# Altium footprint library 2.2TFT.PcbLib: 6 footprints
Each footprint in its own frame and in the unit in brackets; x right, y up, seen from the top. Pads: shape width x height; smd on the part's side, far side on the other; paste and mask are expansions set on the pad; w line width, h text height; cw(c..) or ccw(c..) is an arc to the next point about the centre after c.
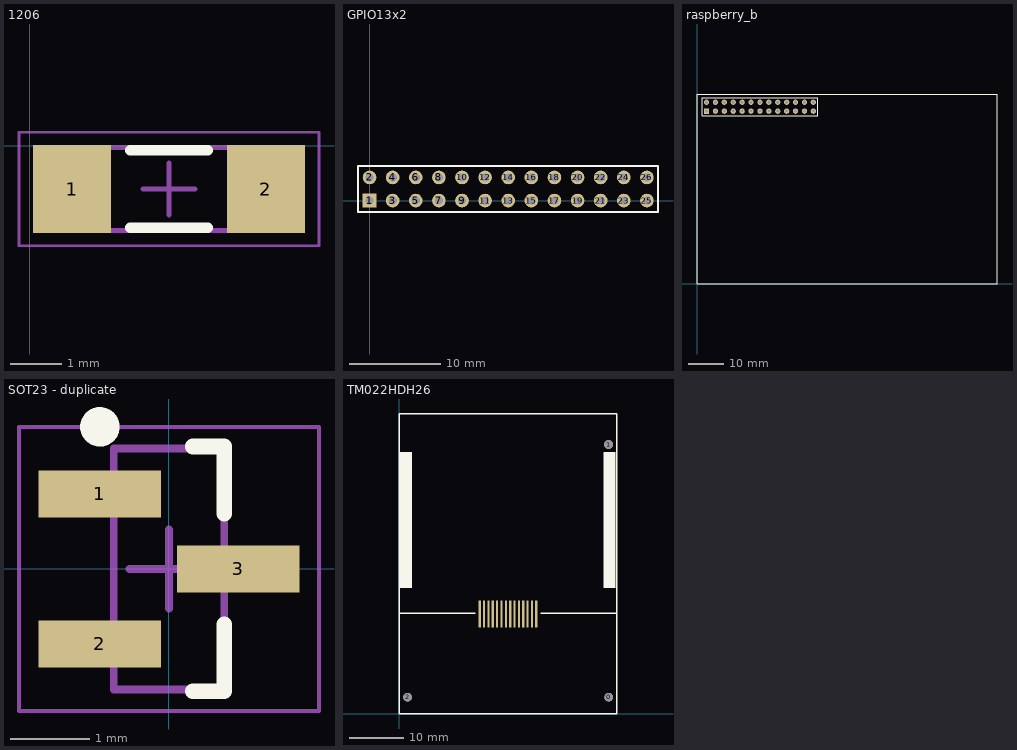
[diagram p0: the footprints below, top view; thin cyan lines are the x and y axes]

## 1206 [mm]
pads (2):
  rect 1.5x1.7 smd: 1(0.817,-0.838) 2(4.567,-0.838)
Top Overlay:
  lines w0.2: 1.942,-1.588 3.442,-1.588 ; 1.942,-0.088 3.442,-0.088
Mechanical 13:
  lines w0.1: 1.092,-1.638 1.092,-0.038 4.292,-0.038 4.292,-1.638 1.092,-1.638
Mechanical 15:
  lines w0.05: -0.208,-1.938 -0.208,0.262 5.592,0.262 5.592,-1.938 -0.208,-1.938
  lines w0.1: 2.192,-0.838 3.192,-0.838 ; 2.692,-1.338 2.692,-0.338
3D body: height 1.1, standoff 0, extent 1.592,-1.638 3.792,-0.038
3D body: height 1.1, standoff 0, extent 1.092,-1.638 1.592,-0.038
3D body: height 1.1, standoff 0, extent 3.792,-1.638 4.292,-0.038

## GPIO13x2 [mm]
pads (26):
  rect 1.5x1.5 hole 0.9: 1(0,0)
  round 1.5 hole 0.9: 2(0,2.54) 3(2.54,0) 4(2.54,2.54) 5(5.08,0) 6(5.08,2.54) 7(7.62,0) 8(7.62,2.54) 9(10.16,0) 10(10.16,2.54) 11(12.7,0) 12(12.7,2.54) 13(15.24,0) 14(15.24,2.54) 15(17.78,0) 16(17.78,2.54) 17(20.32,0) 18(20.32,2.54) 19(22.86,0) 20(22.86,2.54) 21(25.4,0) 22(25.4,2.54) 23(27.94,0) 24(27.94,2.54) 25(30.48,0) 26(30.48,2.54)
Top Overlay:
  lines w0.2: -1.27,-1.27 31.698,-1.27 31.698,3.81 -1.27,3.81 -1.27,-1.27

## raspberry_b [mm]
pads (26):
  rect 1.5x1.5 hole 0.9: 1(2.719,49.198)
  round 1.5 hole 0.9: 2(2.719,51.738) 3(5.259,49.198) 4(5.259,51.738) 5(7.799,49.198) 6(7.799,51.738) 7(10.339,49.198) 8(10.339,51.738) 9(12.879,49.198) 10(12.879,51.738) 11(15.419,49.198) 12(15.419,51.738) 13(17.959,49.198) 14(17.959,51.738) 15(20.499,49.198) 16(20.499,51.738) 17(23.039,49.198) 18(23.039,51.738) 19(25.579,49.198) 20(25.579,51.738) 21(28.119,49.198) 22(28.119,51.738) 23(30.659,49.198) 24(30.659,51.738) 25(33.199,49.198) 26(33.199,51.738)
Top Overlay:
  lines w0.2: 1.449,47.928 1.449,53.008 34.417,53.008 34.417,47.928 1.449,47.928
  lines w0.254: 0,0 85.6,0 85.6,53.98 0,53.98 0,0

## S8050 [mm]

## SOT23 - duplicate [mm]
height 1.1
pads (3):
  rect 1.55x0.6 smd: 1(-0.875,0.95) 2(-0.875,-0.95) 3(0.875,0)
Top Overlay:
  circle w0.25: c-0.875,1.8 r0.125
  lines w0.2: 0.3,-1.55 0.7,-1.55 0.7,-0.7 ; 0.3,1.55 0.7,1.55 0.7,0.7
Mechanical 13:
  lines w0.1: -0.7,-1.525 0.7,-1.525 0.7,1.525 -0.7,1.525 -0.7,-1.525
Mechanical 15:
  lines w0.05: -1.9,-1.8 1.9,-1.8 1.9,1.8 -1.9,1.8 -1.9,-1.8
  lines w0.1: -0.5,0 0.5,0 ; 0,-0.5 0,0.5
3D body: height 1.1, standoff 0.05, extent -0.7,-1.525 0.7,1.525

## TM022HDH26 [mm]
pads (17):
  round 1.6 hole 1.6 unplated: 0(38.583,3.099) 1(38.557,49.581) 2(1.575,3.099)
  rect 0.4x5 smd: 1(14.856,18.39) 2(15.656,18.39) 3(16.456,18.39) 4(17.256,18.39) 5(18.056,18.39) 6(18.856,18.39) 7(19.656,18.39) 8(20.456,18.39) 9(21.256,18.39) 10(22.056,18.39) 11(22.856,18.39) 12(23.656,18.39) 13(24.456,18.39) 14(25.256,18.39)
Top Overlay:
  rectangle: 37.6,23.2 39.8,48.2
  rectangle: 0.2,23.2 2.4,48.2
  lines w0.254: 0,18.5 14.021,18.5 ; 26.035,18.5 40.056,18.5 ; 0,0 40.1,0 40.1,55.2 0,55.2 0,0